# EAGLE library part LT1638 (library LT1638 - Rail to Rail OpAmp)
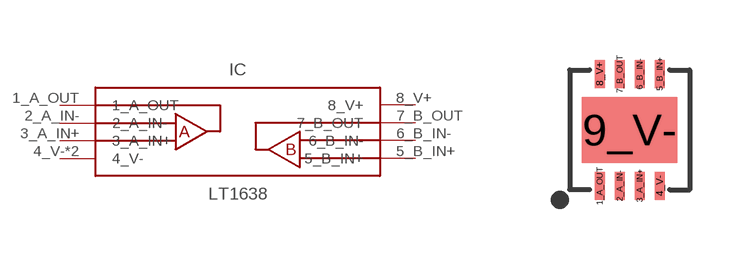
[diagram p0: symbol with the pads of DFN-8; footprint DFN-8]

Designator prefix IC

## LT1638  [DFN-8]
1_A_OUT  1_A_OUT
2_A_IN-  2_A_IN-
3_A_IN+  3_A_IN+
4_V-  4_V-
5_B_IN+  5_B_IN+
6_B_IN-  6_B_IN-
7_B_OUT  7_B_OUT
8_V+  8_V+
9_V-  4_V-

## Footprint DFN-8 (pad centres in mm)
smd 0.25 x 0.7: 1_A_OUT -0.75,-1.4; 2_A_IN- -0.25,-1.4; 3_A_IN+ 0.25,-1.4; 4_V- 0.75,-1.4; 5_B_IN+ 0.75,1.4; 6_B_IN- 0.25,1.4; 7_B_OUT -0.25,1.4; 8_V+ -0.75,1.4
smd 2.38 x 1.65: 9_V- 0,0